# EAGLE library part TPS6217 (library TI)
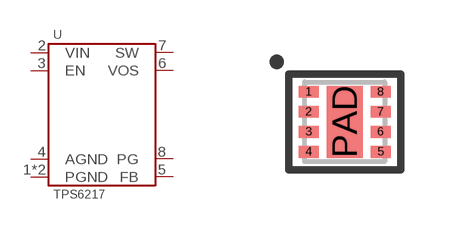
[diagram p28: symbol with the pads of DFN-8-2MM; footprint DFN-8-2MM]

Designator prefix U

## TPS62173DSGR  [DFN-8-2MM]
1  PGND
2  VIN
3  EN
4  AGND
5  FB
6  VOS
7  SW
8  PG
PAD  PGND

## TPS62172DSGR  [DFN-8-2MM]
Pads as for DFN-8-2MM

## Footprint DFN-8-2MM (pad centres in mm)
smd 0.5 x 0.3: 1 -0.9,0.75; 2 -0.9,0.25; 3 -0.9,-0.25; 4 -0.9,-0.75; 5 0.9,-0.75; 6 0.9,-0.25; 7 0.9,0.25; 8 0.9,0.75
smd 0.9 x 1.8: PAD 0,0